# Altium schematic symbol library 编码器.SchLib: 2 symbols
Pins are listed as number, name and electrical type; pins without a type are passive.

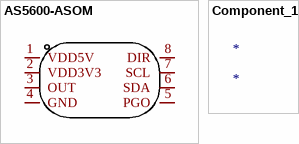
[diagram p0: symbols AS5600-ASOM to Component_1]

## AS5600-ASOM
designator U??  (value not drawn)
Manufacturer: ams(艾迈斯半导体); Add into BOM: yes; Supply Voltage: 5V；3.3V; Rotation Angle: 0°~360°; Symbol: AS5600-ASOM; Device: AS5600-ASOM; LCSC Part Name: AS5600-ASOM; Supplier Part: C79815; Manufacturer Part: AS5600-ASOM; Supplier Footprint: SOIC-8; JLCPCB Part Class: Extended Part; Datasheet: https://atta.szlcsc.com/upload/public/pdf/source/20161027/1477535527192.pdf; Supplier: LCSC; Convert to PCB: yes
footprint SOIC-8_L5.0-W4.0-P1.27-LS6.0-BL
pins: 1 VDD5V, 2 VDD3V3, 3 OUT, 4 GND, 5 PGO, 6 SDA, 7 SCL, 8 DIR

## Component_1
designator *